# Altium schematic symbol library SCH - MCU - RENESAS - RENESAS R7FS1287XXXXXXLM 36LGA.SchLib: 1 symbol
Pins are listed as number, name and electrical type; pins without a type are passive.

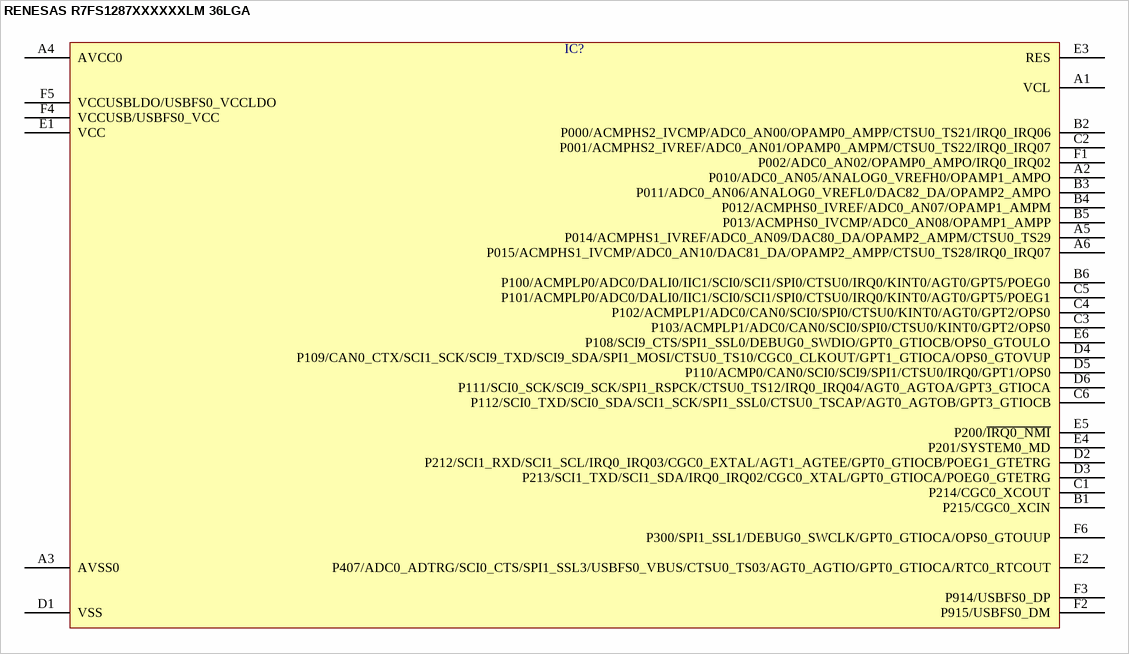
[diagram p0: symbol RENESAS R7FS1287XXXXXXLM 36LGA]

## RENESAS R7FS1287XXXXXXLM 36LGA
designator IC?  (value not drawn)
pins: A1 VCL, A2 P010/ADC0_AN05/ANALOG0_VREFH0/OPAMP1_AMPO, A3 AVSS0, A4 AVCC0, A5 P014/ACMPHS1_IVREF/ADC0_AN09/DAC80_DA/OPAMP2_AMPM/CTSU0_TS29, A6 P015/ACMPHS1_IVCMP/ADC0_AN10/DAC81_DA/OPAMP2_AMPP/CTSU0_TS28/IRQ0_IRQ07, B1 P215/CGC0_XCIN, B2 P000/ACMPHS2_IVCMP/ADC0_AN00/OPAMP0_AMPP/CTSU0_TS21/IRQ0_IRQ06, B3 P011/ADC0_AN06/ANALOG0_VREFL0/DAC82_DA/OPAMP2_AMPO, B4 P012/ACMPHS0_IVREF/ADC0_AN07/OPAMP1_AMPM, B5 P013/ACMPHS0_IVCMP/ADC0_AN08/OPAMP1_AMPP, B6 P100/ACMPLP0/ADC0/DALI0/IIC1/SCI0/SCI1/SPI0/CTSU0/IRQ0/KINT0/AGT0/GPT5/POEG0, C1 P214/CGC0_XCOUT, C2 P001/ACMPHS2_IVREF/ADC0_AN01/OPAMP0_AMPM/CTSU0_TS22/IRQ0_IRQ07, C3 P103/ACMPLP1/ADC0/CAN0/SCI0/SPI0/CTSU0/KINT0/GPT2/OPS0, C4 P102/ACMPLP1/ADC0/CAN0/SCI0/SPI0/CTSU0/KINT0/AGT0/GPT2/OPS0, C5 P101/ACMPLP0/ADC0/DALI0/IIC1/SCI0/SCI1/SPI0/CTSU0/IRQ0/KINT0/AGT0/GPT5/POEG1, C6 P112/SCI0_TXD/SCI0_SDA/SCI1_SCK/SPI1_SSL0/CTSU0_TSCAP/AGT0_AGTOB/GPT3_GTIOCB, D1 VSS, D2 P212/SCI1_RXD/SCI1_SCL/IRQ0_IRQ03/CGC0_EXTAL/AGT1_AGTEE/GPT0_GTIOCB/POEG1_GTETRG, D3 P213/SCI1_TXD/SCI1_SDA/IRQ0_IRQ02/CGC0_XTAL/GPT0_GTIOCA/POEG0_GTETRG, D4 P109/CAN0_CTX/SCI1_SCK/SCI9_TXD/SCI9_SDA/SPI1_MOSI/CTSU0_TS10/CGC0_CLKOUT/GPT1_GTIOCA/OPS0_GTOVUP, D5 P110/ACMP0/CAN0/SCI0/SCI9/SPI1/CTSU0/IRQ0/GPT1/OPS0, D6 P111/SCI0_SCK/SCI9_SCK/SPI1_RSPCK/CTSU0_TS12/IRQ0_IRQ04/AGT0_AGTOA/GPT3_GTIOCA, E1 VCC, E2 P407/ADC0_ADTRG/SCI0_CTS/SPI1_SSL3/USBFS0_VBUS/CTSU0_TS03/AGT0_AGTIO/GPT0_GTIOCA/RTC0_RTCOUT, E3 RES, E4 P201/SYSTEM0_MD, E5 P200/~{IRQ0_NMI}, E6 P108/SCI9_CTS/SPI1_SSL0/DEBUG0_SWDIO/GPT0_GTIOCB/OPS0_GTOULO, F1 P002/ADC0_AN02/OPAMP0_AMPO/IRQ0_IRQ02, F2 P915/USBFS0_DM, F3 P914/USBFS0_DP, F4 VCCUSB/USBFS0_VCC, F5 VCCUSBLDO/USBFS0_VCCLDO, F6 P300/SPI1_SSL1/DEBUG0_SWCLK/GPT0_GTIOCA/OPS0_GTOUUP